# Altium footprint library Конденсаторы-mm.PcbLib: 128 footprints (part 3 of 8)
Each footprint in its own frame and in the unit in brackets; x right, y up, seen from the top. Pads: shape width x height; smd on the part's side, far side on the other; paste and mask are expansions set on the pad; w line width, h text height; cw(c..) or ccw(c..) is an arc to the next point about the centre after c.
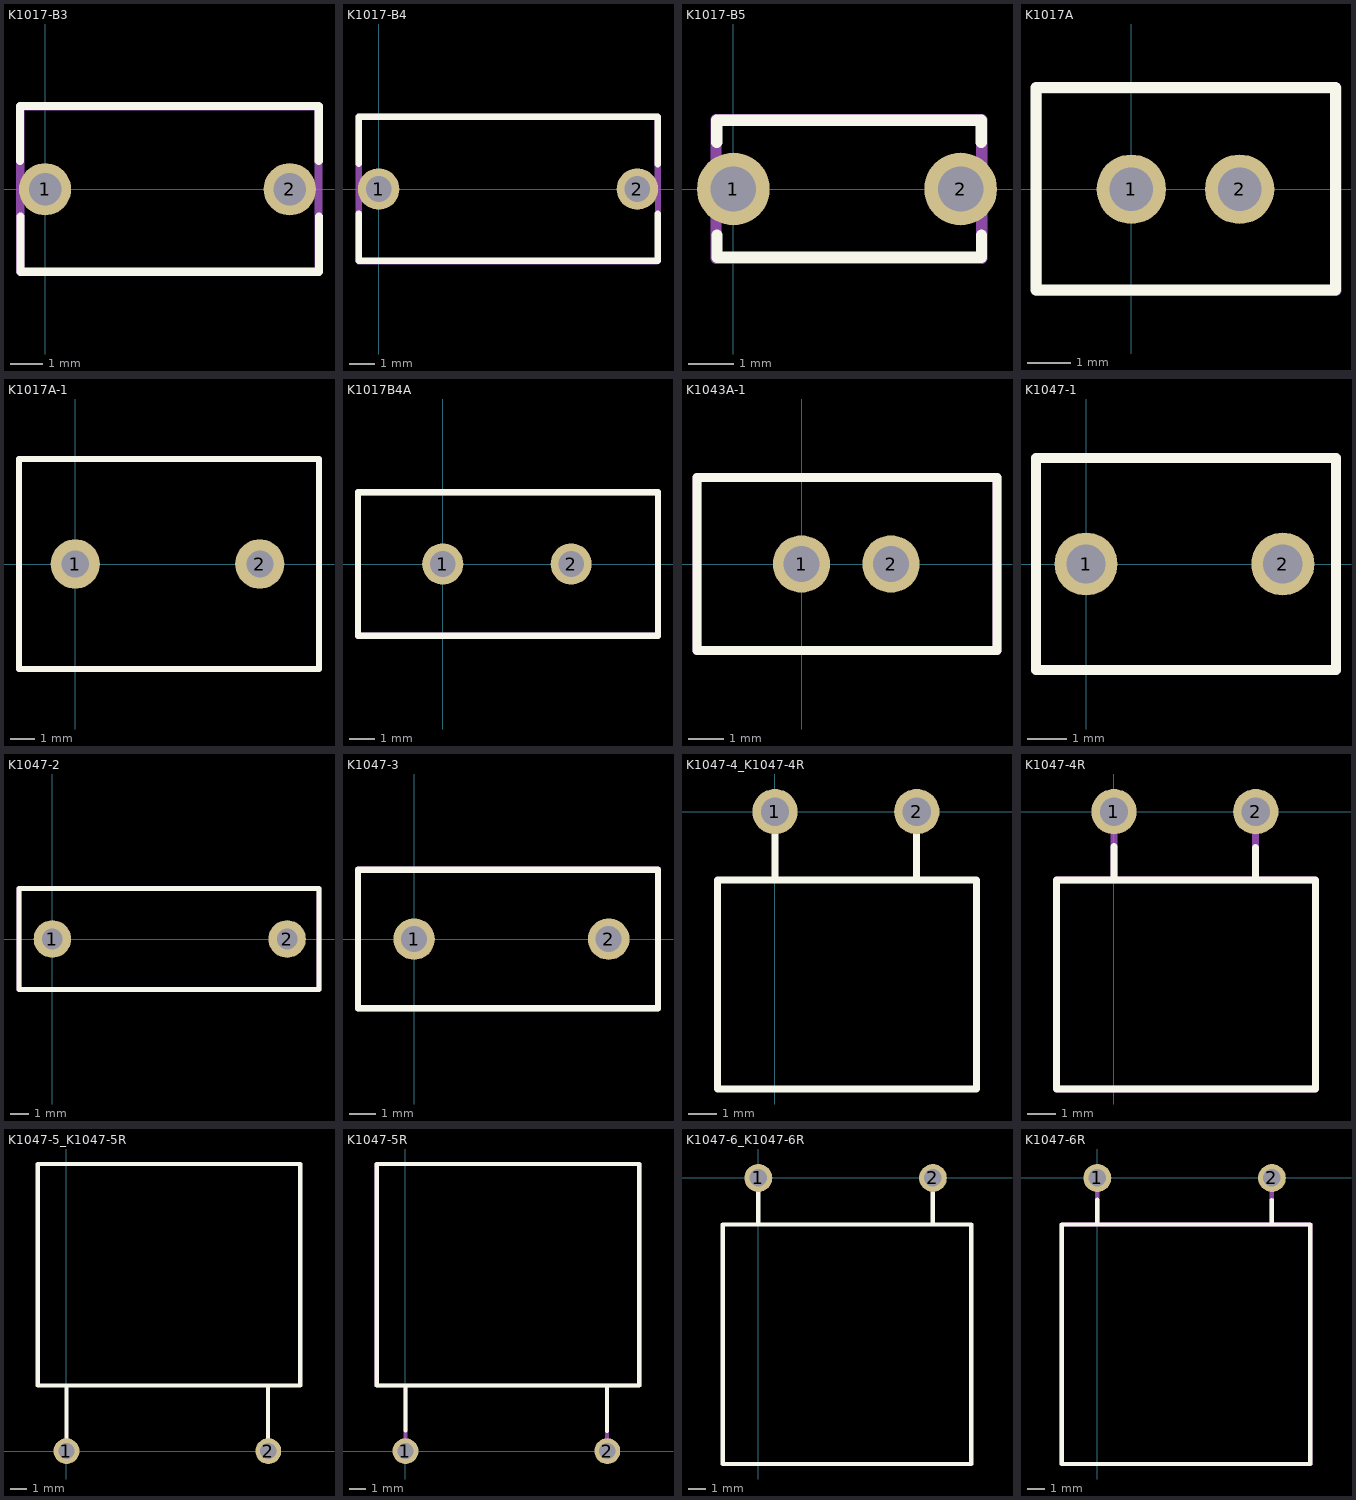
[diagram p2: the footprints below, top view; thin cyan lines are the x and y axes]

## K1017-B3 [mm]
pads (2):
  round 1.6 hole 1: 1(0,0) 2(7.5,0)
Top Overlay:
  lines w0.25: -0.765,0.865 -0.765,2.555 -0.75,2.555 8.385,2.555 8.385,0.865 ; -0.755,-0.84 -0.755,-2.53 8.38,-2.53 ; 8.395,-2.53 8.395,-0.84
Mechanical 1:
  lines w0.25: -0.762,-2.54 8.382,-2.54 8.382,2.54 -0.762,2.54 -0.762,-2.54

## K1017-B4 [mm]
pads (2):
  round 1.6 hole 1: 1(0,0) 2(10,0)
Top Overlay:
  lines w0.25: -0.765,-0.945 -0.765,-2.78 10.765,-2.78 ; -0.765,0.975 -0.765,2.8 -0.74,2.8 10.79,2.8 10.79,0.965 ; 10.79,-2.78 10.79,-0.955
Mechanical 1:
  lines w0.25: 10.75,-2.79 -0.762,-2.794 -0.762,2.794 10.78,2.79 ; 10.792,2.784 10.8,-2.78

## K1017-B5 [mm]
pads (2):
  round 1.6 hole 1: 1(0,0) 2(5,0)
Top Overlay:
  lines w0.25: -0.365,1.03 -0.365,1.515 -0.355,1.515 5.455,1.515 5.455,1.03 ; -0.36,-1.02 -0.36,-1.505 5.45,-1.505 ; 5.46,-1.505 5.46,-1.02
Mechanical 1:
  lines w0.25: -0.381,-1.524 5.461,-1.524 5.461,1.524 -0.381,1.524 -0.381,-1.524

## K1017A [mm]
pads (2):
  round 1.6 hole 1: 1(0,0) 2(2.5,0)
Top Overlay:
  lines w0.25: -2.199,-2.327 4.709,-2.327 4.709,2.347 -2.199,2.347 -2.199,-2.327
Mechanical 1:
  lines w0.25: -2.184,-2.337 4.724,-2.337 4.724,2.337 -2.184,2.337 -2.184,-2.337

## K1017A-1 [mm]
pads (2):
  round 2 hole 1.1: 1(0,0) 2(7.5,0)
Top Overlay:
  lines w0.25: -2.286,-2.032 -2.286,-4.267 ; -2.286,-4.267 9.906,-4.267 9.906,4.267 -2.286,4.267 -2.286,-4.267
Mechanical 1:
  lines w0.25: -2.286,-2.032 -2.286,-4.267 ; -2.286,-4.267 9.906,-4.267 9.906,4.267 -2.286,4.267 -2.286,-4.267

## K1017B4A [mm]
pads (2):
  round 1.6 hole 1: 1(0,0) 2(5,0)
Top Overlay:
  lines w0.25: -3.302,-2.794 8.382,-2.794 8.382,2.794 -3.302,2.794 -3.302,-2.794
Mechanical 1:
  lines w0.25: -3.302,-2.794 8.382,-2.794 8.382,2.794 -3.302,2.794 -3.302,-2.794

## K1043A-1 [mm]
pads (2):
  round 1.6 hole 1: 1(0,0) 2(2.5,0)
Top Overlay:
  lines w0.25: -2.921,-2.413 5.461,-2.413 5.461,2.413 -2.921,2.413 -2.921,-2.413
Mechanical 1:
  lines w0.25: -2.921,-2.413 5.461,-2.413 5.461,2.413 -2.921,2.413 -2.921,-2.413

## K1047-1 [mm]
pads (2):
  round 1.6 hole 1: 1(0,0) 2(5,0)
Top Overlay:
  lines w0.25: -1.27,-2.692 6.35,-2.692 6.35,2.692 -1.27,2.692 -1.27,-2.692
Mechanical 1:
  lines w0.25: -1.27,-2.692 6.35,-2.692 6.35,2.692 -1.27,2.692 -1.27,-2.692

## K1047-2 [mm]
pads (2):
  round 2 hole 1.1: 1(0,0) 2(12.5,0)
Top Overlay:
  lines w0.25: 14.18,-2.69 -1.778,-2.692 -1.778,2.692 14.18,2.69 ; 14.198,-2.692 14.198,2.692
Mechanical 1:
  lines w0.25: 14.18,-2.69 -1.778,-2.692 -1.778,2.692 14.18,2.69 ; 14.198,-2.692 14.198,2.692

## K1047-3 [mm]
pads (2):
  round 1.6 hole 1: 1(0,0) 2(7.5,0)
Top Overlay:
  lines w0.25: 9.37,-2.67 -2.159,-2.667 -2.159,2.667 9.38,2.67 ; 9.399,-2.657 9.399,2.677
Mechanical 1:
  lines w0.25: 9.37,-2.67 -2.159,-2.667 -2.159,2.667 9.38,2.67 ; 9.399,-2.657 9.399,2.677

## K1047-4_K1047-4R [mm]
pads (2):
  round 1.6 hole 1: 1(0,0) 2(5,0)
Top Overlay:
  lines w0.25: 0,-2.413 0,0 ; 4.99,-2.413 4.99,0 ; -2.032,-9.779 7.112,-9.779 7.112,-2.413 -2.032,-2.413 -2.032,-9.779

## K1047-4R [mm]
pads (2):
  round 1.6 hole 1: 1(0,0) 2(5,0)
Top Overlay:
  lines w0.25: 0,-2.413 0,-1.225 ; 4.99,-2.413 4.995,-1.26 ; -2.032,-9.779 7.112,-9.779 7.112,-2.413 -2.032,-2.413 -2.032,-9.779
Mechanical 1:
  lines w0.25: 0,-2.413 0,0 ; 4.99,-2.413 4.99,0 ; -2.032,-9.779 7.112,-9.779 7.112,-2.413 -2.032,-2.413 -2.032,-9.779

## K1047-5_K1047-5R [mm]
pads (2):
  round 1.6 hole 1: 1(0,0) 2(12.5,0)
Top Overlay:
  lines w0.25: 0,0 0,4.064 ; 12.49,0 12.49,4.064 ; -1.778,4.064 14.478,4.064 14.478,17.78 -1.778,17.78 -1.778,4.064

## K1047-5R [mm]
pads (2):
  round 1.6 hole 1: 1(0,0) 2(12.5,0)
Top Overlay:
  lines w0.25: 0,4.064 0.004,1.281 ; 12.49,4.064 12.492,1.248 ; -1.778,4.064 14.478,4.064 14.478,17.78 -1.778,17.78 -1.778,4.064
Mechanical 1:
  lines w0.25: 0,0 0,4.064 ; 12.49,0 12.49,4.064 ; -1.778,4.064 14.478,4.064 14.478,17.78 -1.778,17.78 -1.778,4.064

## K1047-6_K1047-6R [mm]
pads (2):
  round 1.6 hole 1: 1(0,0) 2(10,0)
Top Overlay:
  lines w0.25: 0,-2.54 0,0 ; 10,-2.61 10,-0.07 ; -2.032,-16.383 12.192,-16.383 12.192,-2.667 -2.032,-2.667 -2.032,-16.383

## K1047-6R [mm]
pads (2):
  round 1.6 hole 1: 1(0,0) 2(10,0)
Top Overlay:
  lines w0.25: -0.002,-1.241 0,-2.54 ; 10,-2.61 10.001,-1.263 ; -2.032,-16.383 12.192,-16.383 12.192,-2.667 -2.032,-2.667 -2.032,-16.383
Mechanical 1:
  lines w0.25: 0,-2.54 0,0 ; 10,-2.61 10,-0.07 ; -2.032,-16.383 12.192,-16.383 12.192,-2.667 -2.032,-2.667 -2.032,-16.383